# EAGLE library part WE-FLEX+ (library Wurth_Elektronik_Passive_rev15c)
WE-FLEX+ Flexible Transformer for DC/DC Converter Characteristics Transformer with 6 identical windings Power up to 300 W possible Isolation voltage 500 VDC Low leakage inductance Operating temperature: –40 °C to +125 °C Applications All kind of switching regulators -Flyback converters -Forward converters -Push-pull converters -Step-up/step-down converters -SEPIC converter <http://katalog.we-online.de/media/images/eisos/UtFlex_Plus_MID_pf2.jpg> Details see: http://katalog.we-online.de/en/pbs/WE-FLEX_Plus? Updated by Dan Xu 2014-07-07 2014 (C) Wurth Elektronik
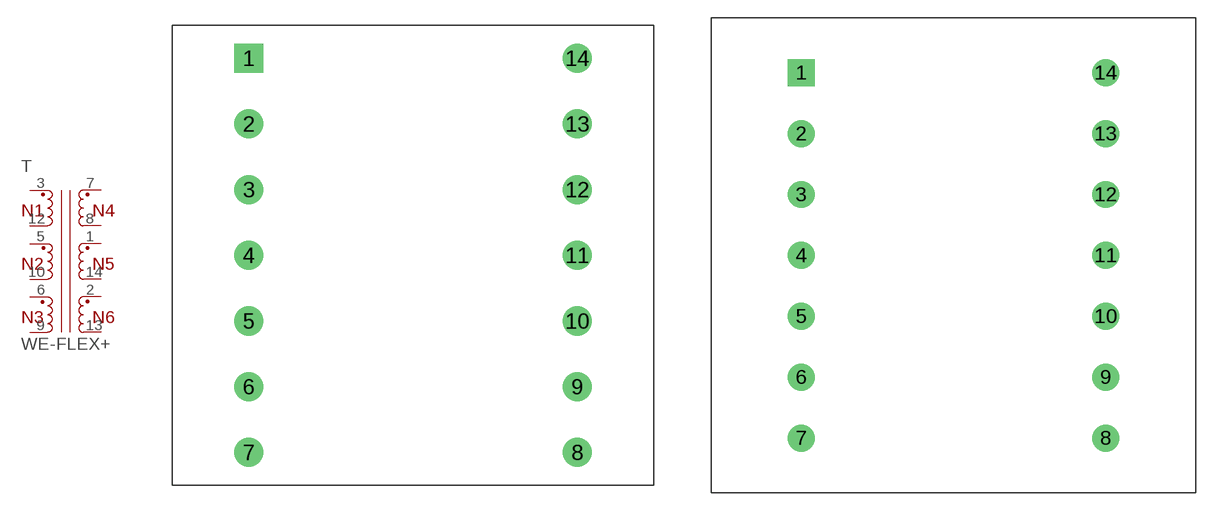
[diagram p9: symbol with the pads of WE_ETD29_THT_14PIN; footprints WE_ETD29_THT_14PIN, WE_ETD34_THT_14PIN]

Designator prefix T

## WE-FLEX+_ETD29  [WE_ETD29_THT_14PIN]
1  4  pas
2  6  pas
3  1  pas
5  11  pas
6  9  pas
7  2  pas
8  3  pas
9  8  pas
10  10  pas
12  12  pas
13  7  pas
14  5  pas

## WE-FLEX+_ETD34  [WE_ETD34_THT_14PIN]
Pads as for WE_ETD29_THT_14PIN

## WE-FLEX+_ETD39  [WE_ETD39_THT_16PIN]
2  4  pas
3  6  pas
4  1  pas
5  11  pas
6  9  pas
7  2  pas
10  3  pas
11  8  pas
12  10  pas
13  12  pas
14  7  pas
15  5  pas

## Footprint WE_ETD29_THT_14PIN (pad centres in mm)
Transformer, ETD29 THT 14Pin
drill 1.5 square: 1 -12.7,15.24
drill 1.5: 2 -12.7,10.16; 3 -12.7,5.08; 4 -12.7,0; 5 -12.7,-5.08; 6 -12.7,-10.16; 7 -12.7,-15.24; 8 12.7,-15.24; 9 12.7,-10.16; 10 12.7,-5.08; 11 12.7,0; 12 12.7,5.08; 13 12.7,10.16; 14 12.7,15.24

## Footprint WE_ETD34_THT_14PIN (pad centres in mm)
Transformer, ETD34 THT 14Pin
drill 1.5 square: 1 -12.7,15.24
drill 1.5: 2 -12.7,10.16; 3 -12.7,5.08; 4 -12.7,0; 5 -12.7,-5.08; 6 -12.7,-10.16; 7 -12.7,-15.24; 8 12.7,-15.24; 9 12.7,-10.16; 10 12.7,-5.08; 11 12.7,0; 12 12.7,5.08; 13 12.7,10.16; 14 12.7,15.24

## Footprint WE_ETD39_THT_16PIN (pad centres in mm)
Transformer, ETD39 THT 16Pin
drill 1.5 square: 1 -15.24,17.78
drill 1.5: 2 -15.24,12.7; 3 -15.24,7.62; 4 -15.24,2.54; 5 -15.24,-2.54; 6 -15.24,-7.62; 7 -15.24,-12.7; 8 -15.24,-17.78; 9 15.24,-17.78; 10 15.24,-12.7; 11 15.24,-7.62; 12 15.24,-2.54; 13 15.24,2.54; 14 15.24,7.62; 15 15.24,12.7; 16 15.24,17.78